# EAGLE library part AS-ITM-00295 (library tinycircuits)
SWITCH ROTARY BCD 10POS SMD 5V
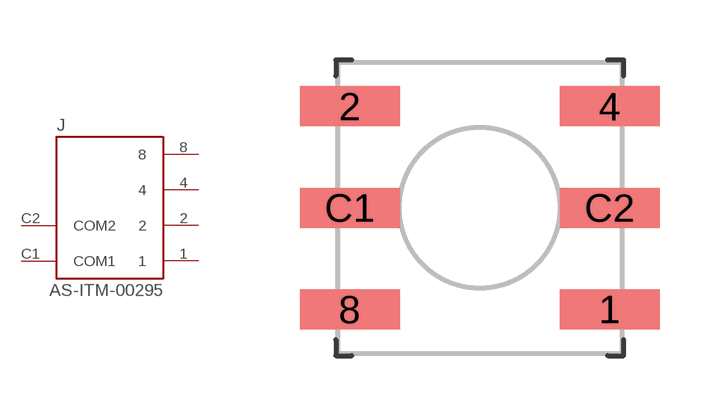
[diagram p117: symbol with the pads of SH-7000; footprint SH-7000]

Designator prefix J

## AS-ITM-00295 (PARTNO: AS-ITM-00295; PNPROTATION: 0; VALUE: SH-7010TA)  [SH-7000]
1  1
2  2
4  4
8  8
C1  COM1
C2  COM2

## Footprint SH-7000 (pad centres in mm)
smd 2.5 x 1: 1 3.25,-2.54; 2 -3.25,2.54; 4 3.25,2.54; 8 -3.25,-2.54; C1 -3.25,0; C2 3.25,0